# Altium schematic symbol library KAJ01SGGT.Schlib: 1 symbol
Pins are listed as number, name and electrical type; pins without a type are passive.

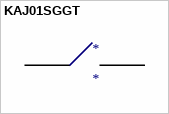
[diagram p0: symbol KAJ01SGGT]

## KAJ01SGGT
designator *
1-position DIP switch
pins: 1, 2